# Altium schematic symbol library Sensors.SchLib: 5 symbols
Pins are listed as number, name and electrical type; pins without a type are passive.

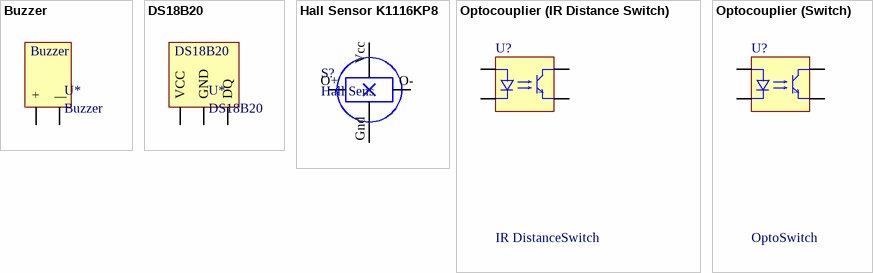
[diagram p0: symbols Buzzer to Optocouplier (Switch)]

## Buzzer
designator U*
Dallas Digital t Sensor; VCC: 3-5.5v; range: -55...+125 C
footprint Buzzer 12x9mm
pins: 1 +, 2 |

## DS18B20
designator U*
Dallas Digital t Sensor; VCC: 3-5.5v; range: -55...+125 C
footprint TO-92 (123) (TO, Flat Index; 3 In-Line, Axial Leads; Body Dia. 4.5mm; Leads 0.51 x 0.48 mm (max))
footprint TO-92 Triangle (123) (TO, Flat Index; 3 In-Line, Axial Leads; Body Dia. 4.5mm; Leads 0.51 x 0.48 mm (max))
footprint TO-92 2.54 (123) (TO, Flat Index; 3 In-Line, Axial Leads; Body Dia. 4.5mm; Leads 0.51 x 0.48 mm (max))
pins: 1 GND, 2 DQ, 3 VCC

## Hall Sensor K1116KP8
designator S?, comment Hall Sens
Name: К1116КП8
footprint Hall Sensor 3Pin
pins: Gnd, O+, O-, Vcc

## Optocouplier (IR Distance Switch)
designator U?, comment IR DistanceSwitch
IR opt Distance Switch; Name: TCRT5000; I Forward: 60 mA; Power dissipation: 100mW; Datasheet: http://www.vishay.com/docs/83760/tcrt5000.pdf
footprint OptoSwitchDistance (TCRT5000, TCRT5000L)
footprint OptoSwitchDistance(V) (TCRT5000, TCRT5000L)
pins: A, C, E, K

## Optocouplier (Switch)
designator U?, comment OptoSwitch
Name: OptoSwitch
footprint OptoSwitch
pins: A, C, E, K